# EAGLE library part EFM32TG822F8 (library EnergyMicro)
EFM32TG822F8 Tiny Microcontroller in 7mm x 7mm QFP48 package
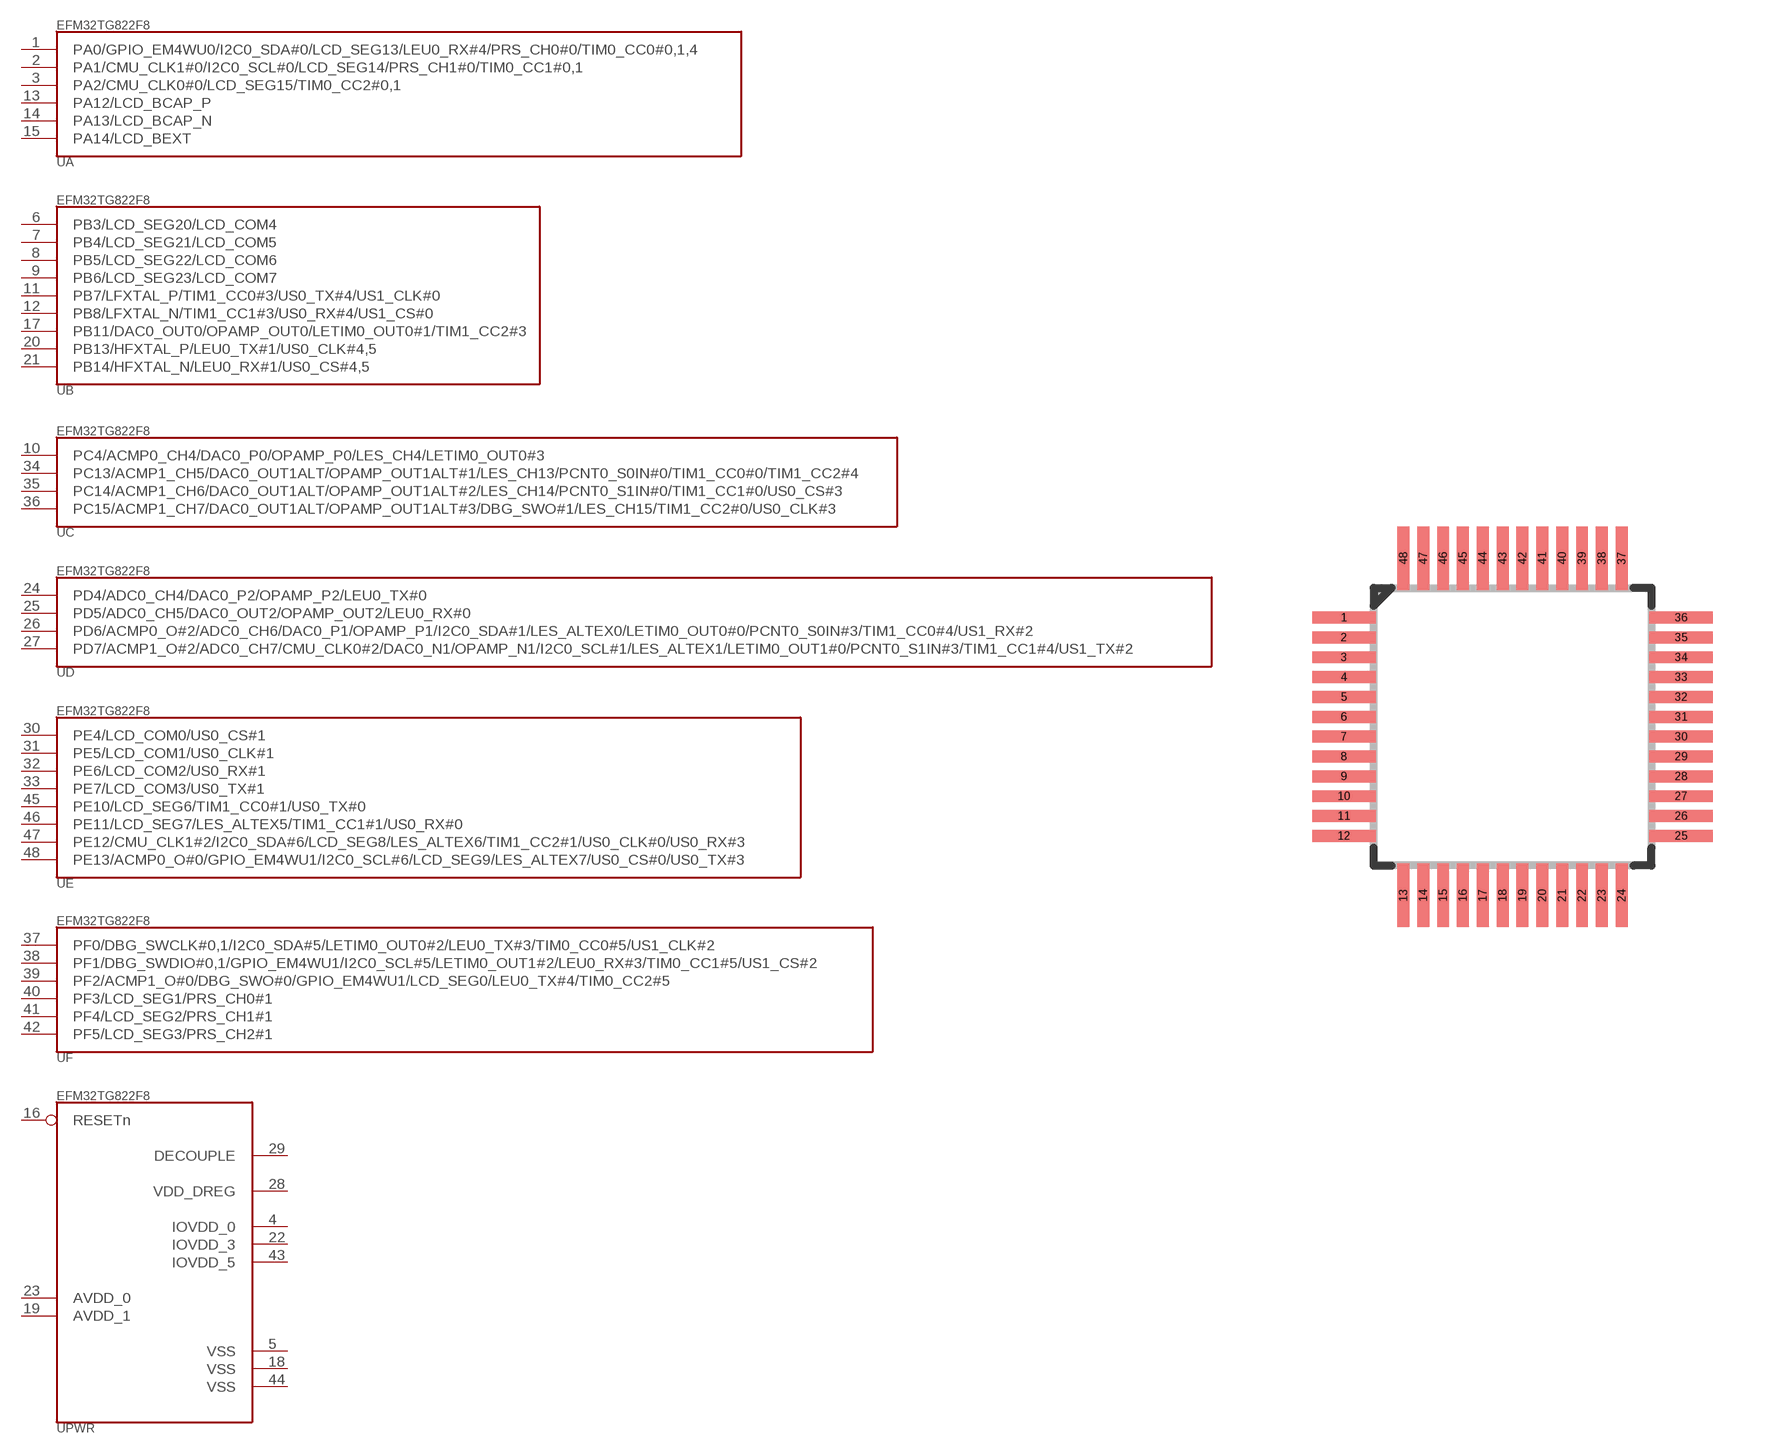
[diagram p137: symbol with the pads of QFP48; footprint QFP48]

Designator prefix -; gates A=EFM32TG822F8_A B=EFM32TG822F8_B C=EFM32TG822F8_C D=EFM32TG822F8_D E=EFM32TG822F8_E F=EFM32TG822F8_F PWR=EFM32TG822F8_PWR

## EFM32TG822F8  [QFP48]
1  A:PA0/GPIO_EM4WU0/I2C0_SDA#0/LCD_SEG13/LEU0_RX#4/PRS_CH0#0/TIM0_CC0#0,1,4
2  A:PA1/CMU_CLK1#0/I2C0_SCL#0/LCD_SEG14/PRS_CH1#0/TIM0_CC1#0,1
3  A:PA2/CMU_CLK0#0/LCD_SEG15/TIM0_CC2#0,1
4  PWR:IOVDD_0  pwr
5  PWR:VSS  pwr
6  B:PB3/LCD_SEG20/LCD_COM4
7  B:PB4/LCD_SEG21/LCD_COM5
8  B:PB5/LCD_SEG22/LCD_COM6
9  B:PB6/LCD_SEG23/LCD_COM7
10  C:PC4/ACMP0_CH4/DAC0_P0/OPAMP_P0/LES_CH4/LETIM0_OUT0#3
11  B:PB7/LFXTAL_P/TIM1_CC0#3/US0_TX#4/US1_CLK#0
12  B:PB8/LFXTAL_N/TIM1_CC1#3/US0_RX#4/US1_CS#0
13  A:PA12/LCD_BCAP_P
14  A:PA13/LCD_BCAP_N
15  A:PA14/LCD_BEXT
16  PWR:RESETn  pas
17  B:PB11/DAC0_OUT0/OPAMP_OUT0/LETIM0_OUT0#1/TIM1_CC2#3
18  PWR:VSS  pwr
19  PWR:AVDD_1  pwr
20  B:PB13/HFXTAL_P/LEU0_TX#1/US0_CLK#4,5
21  B:PB14/HFXTAL_N/LEU0_RX#1/US0_CS#4,5
22  PWR:IOVDD_3  pwr
23  PWR:AVDD_0  pwr
24  D:PD4/ADC0_CH4/DAC0_P2/OPAMP_P2/LEU0_TX#0
25  D:PD5/ADC0_CH5/DAC0_OUT2/OPAMP_OUT2/LEU0_RX#0
26  D:PD6/ACMP0_O#2/ADC0_CH6/DAC0_P1/OPAMP_P1/I2C0_SDA#1/LES_ALTEX0/LETIM0_OUT0#0/PCNT0_S0IN#3/TIM1_CC0#4/US1_RX#2
27  D:PD7/ACMP1_O#2/ADC0_CH7/CMU_CLK0#2/DAC0_N1/OPAMP_N1/I2C0_SCL#1/LES_ALTEX1/LETIM0_OUT1#0/PCNT0_S1IN#3/TIM1_CC1#4/US1_TX#2
28  PWR:VDD_DREG  pwr
29  PWR:DECOUPLE  pwr
30  E:PE4/LCD_COM0/US0_CS#1
31  E:PE5/LCD_COM1/US0_CLK#1
32  E:PE6/LCD_COM2/US0_RX#1
33  E:PE7/LCD_COM3/US0_TX#1
34  C:PC13/ACMP1_CH5/DAC0_OUT1ALT/OPAMP_OUT1ALT#1/LES_CH13/PCNT0_S0IN#0/TIM1_CC0#0/TIM1_CC2#4
35  C:PC14/ACMP1_CH6/DAC0_OUT1ALT/OPAMP_OUT1ALT#2/LES_CH14/PCNT0_S1IN#0/TIM1_CC1#0/US0_CS#3
36  C:PC15/ACMP1_CH7/DAC0_OUT1ALT/OPAMP_OUT1ALT#3/DBG_SWO#1/LES_CH15/TIM1_CC2#0/US0_CLK#3
37  F:PF0/DBG_SWCLK#0,1/I2C0_SDA#5/LETIM0_OUT0#2/LEU0_TX#3/TIM0_CC0#5/US1_CLK#2
38  F:PF1/DBG_SWDIO#0,1/GPIO_EM4WU1/I2C0_SCL#5/LETIM0_OUT1#2/LEU0_RX#3/TIM0_CC1#5/US1_CS#2
39  F:PF2/ACMP1_O#0/DBG_SWO#0/GPIO_EM4WU1/LCD_SEG0/LEU0_TX#4/TIM0_CC2#5
40  F:PF3/LCD_SEG1/PRS_CH0#1
41  F:PF4/LCD_SEG2/PRS_CH1#1
42  F:PF5/LCD_SEG3/PRS_CH2#1
43  PWR:IOVDD_5  pwr
44  PWR:VSS  pwr
45  E:PE10/LCD_SEG6/TIM1_CC0#1/US0_TX#0
46  E:PE11/LCD_SEG7/LES_ALTEX5/TIM1_CC1#1/US0_RX#0
47  E:PE12/CMU_CLK1#2/I2C0_SDA#6/LCD_SEG8/LES_ALTEX6/TIM1_CC2#1/US0_CLK#0/US0_RX#3
48  E:PE13/ACMP0_O#0/GPIO_EM4WU1/I2C0_SCL#6/LCD_SEG9/LES_ALTEX7/US0_CS#0/US0_TX#3

## Footprint QFP48 (pad centres in mm)
smd 1.6 x 0.3: 1 -4.25,2.75; 2 -4.25,2.25; 3 -4.25,1.75; 4 -4.25,1.25; 5 -4.25,0.75; 6 -4.25,0.25; 7 -4.25,-0.25; 8 -4.25,-0.75; 9 -4.25,-1.25; 10 -4.25,-1.75; 11 -4.25,-2.25; 12 -4.25,-2.75; 25 4.25,-2.75; 26 4.25,-2.25; 27 4.25,-1.75; 28 4.25,-1.25; 29 4.25,-0.75; 30 4.25,-0.25; 31 4.25,0.25; 32 4.25,0.75; 33 4.25,1.25; 34 4.25,1.75; 35 4.25,2.25; 36 4.25,2.75
smd 0.3 x 1.6: 13 -2.75,-4.25; 14 -2.25,-4.25; 15 -1.75,-4.25; 16 -1.25,-4.25; 17 -0.75,-4.25; 18 -0.25,-4.25; 19 0.25,-4.25; 20 0.75,-4.25; 21 1.25,-4.25; 22 1.75,-4.25; 23 2.25,-4.25; 24 2.75,-4.25; 37 2.75,4.25; 38 2.25,4.25; 39 1.75,4.25; 40 1.25,4.25; 41 0.75,4.25; 42 0.25,4.25; 43 -0.25,4.25; 44 -0.75,4.25; 45 -1.25,4.25; 46 -1.75,4.25; 47 -2.25,4.25; 48 -2.75,4.25